# Altium schematic symbol library MIC29302.SchLib: 1 symbol
Pins are listed as number, name and electrical type; pins without a type are passive.

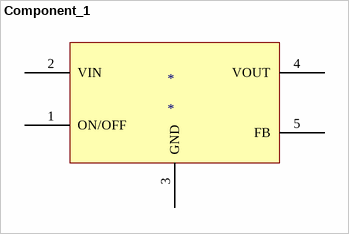
[diagram p0: symbol Component_1]

## Component_1
designator *
footprint MIC
pins: 1 ON/OFF, 2 VIN, 3 GND, 4 VOUT, 5 FB